# Altium schematic symbol library TJA1050T.SchLib: 1 symbol
Pins are listed as number, name and electrical type; pins without a type are passive.

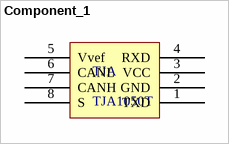
[diagram p0: symbol Component_1]

## Component_1
designator TJA, comment TJA1050T
pins: 1 TXD, 2 GND, 3 VCC, 4 RXD, 5 Vvef, 6 CANL, 7 CANH, 8 S